# Altium footprint library PCB - CONNECTOR - HARWIN - HARWIN M20-7820945.PcbLib: 1 footprints
Each footprint in its own frame and in the unit in brackets; x right, y up, seen from the top. Pads: shape width x height; smd on the part's side, far side on the other; paste and mask are expansions set on the pad; w line width, h text height; cw(c..) or ccw(c..) is an arc to the next point about the centre after c.
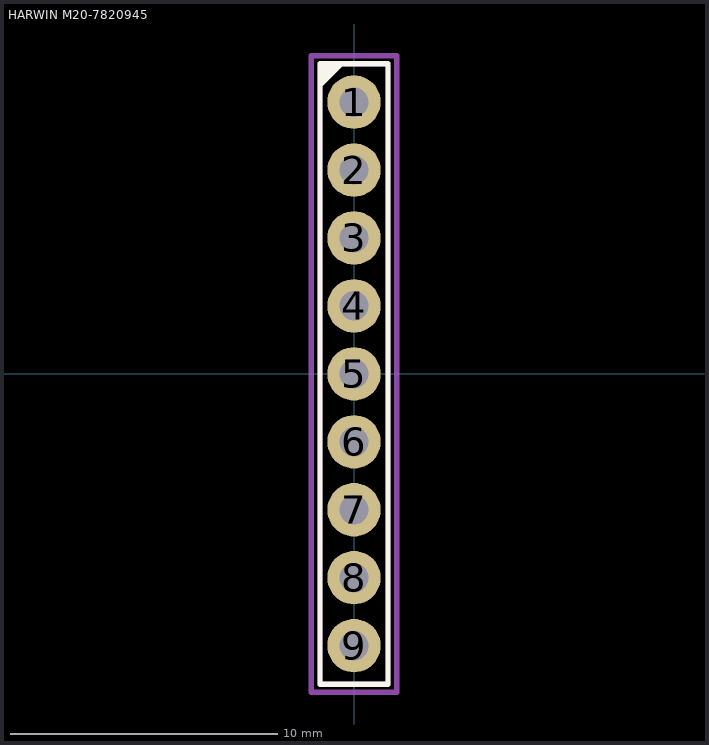
[diagram p0: the footprint, top view; thin cyan lines are the x and y axes]

## HARWIN M20-7820945 [mm] "2.54mm DIL PC TAIL PIN HEADER ASSEMBLY"
height 5
pads (9):
  round 2 hole 1.1: 1(0,10.16) 2(0,7.62) 3(0,5.08) 4(0,2.54) 5(0,0) 6(0,-2.54) 7(0,-5.08) 8(0,-7.62) 9(0,-10.16)
Top Overlay:
  region: -1.23,11.62 -1.23,10.72 -0.33,11.62
  lines w0.2: -1.27,-11.6 1.27,-11.6 1.27,11.59 -1.27,11.59 -1.27,-11.6
Top Assembly:
  lines w0.2: -0.5,0 0.5,0 ; 0,-0.5 0,0.5 ; -1.27,-11.6 1.27,-11.6 1.27,11.59 -1.27,11.59 -1.27,-11.6
Top Courtyard (Mech15):
  lines w0.2: -1.6,-11.9 1.6,-11.9 1.6,11.89 -1.6,11.89 -1.6,-11.9
3D body "M20-7820942.step": height 8.5, standoff -3, extent -1.25,-11.63 1.25,11.63